# Altium footprint library LTC1733PcbLib.PcbLib: 1 footprints
Each footprint in its own frame and in the unit in brackets; x right, y up, seen from the top. Pads: shape width x height; smd on the part's side, far side on the other; paste and mask are expansions set on the pad; w line width, h text height; cw(c..) or ccw(c..) is an arc to the next point about the centre after c.
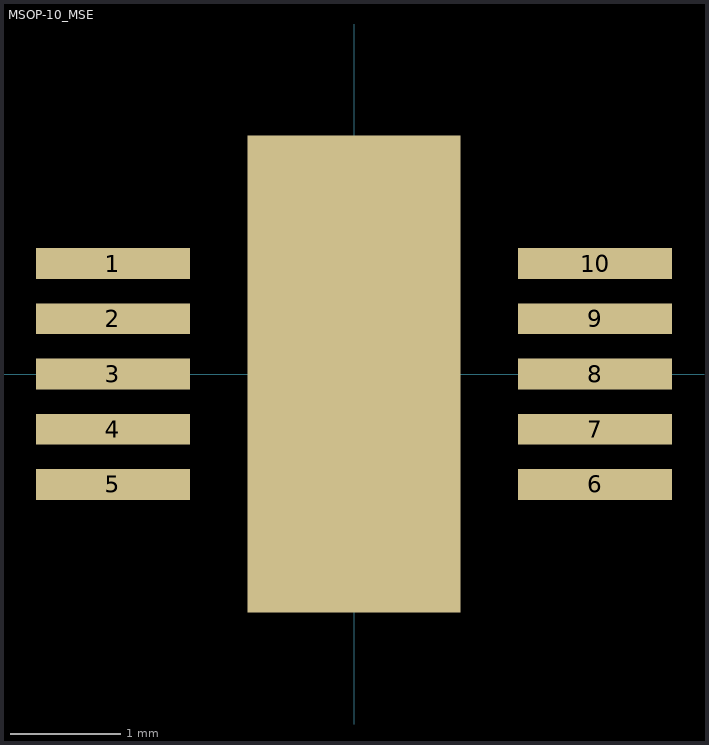
[diagram p0: the footprint, top view; thin cyan lines are the x and y axes]

## MSOP-10_MSE [mil]
pads (11):
  rect 55x11 smd mask+2.2: 1(-86,39.4) 2(-86,19.7) 3(-86,0) 4(-86,-19.7) 5(-86,-39.4) 6(86,-39.4) 7(86,-19.7) 8(86,0) 9(86,19.7) 10(86,39.4)
  rect 76x170 smd paste-78.74: ""(0,0)
Top Paste:
  region: 38,-42.5 -38,-42.5 -38,42.5 38,42.5
3D body "LTC1733EMSE#PBF.STEP": height 42.47, standoff -0.83, extent -96.46,-59.05 96.45,59.06